# Altium integrated library standard_resistors.IntLib: 2 symbols
Pins are listed as number, name and electrical type; pins without a type are passive.

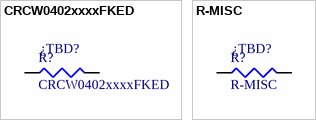
[diagram p0: symbols CRCW0402xxxxFKED to R-MISC]

## CRCW0402xxxxFKED
designator R?  value ¿TBD?
0.125W, -55-155C, 1005, 50V, ±1%
footprint 0402 (Chip Capacitor, Body 1.0x0.5mm, IPC High Density)
pins: 1, 2

## R-MISC
designator R?  value ¿TBD?
0.125W, -55-155C, 1005, 50V, ±1%
footprint 0402 (Chip Capacitor, Body 1.0x0.5mm, IPC High Density)
footprint 0603 (Chip Capacitor, Body 1.6x0.8mm, IPC High Density)
footprint 0805 (Chip Resistor, Body 2.0x1.2mm, IPC High Density)
pins: 1, 2